# Altium footprint library digital_logic_design_reference_pcblib - 20240704更新.PcbLib: 11 footprints
Each footprint in its own frame and in the unit in brackets; x right, y up, seen from the top. Pads: shape width x height; smd on the part's side, far side on the other; paste and mask are expansions set on the pad; w line width, h text height; cw(c..) or ccw(c..) is an arc to the next point about the centre after c.
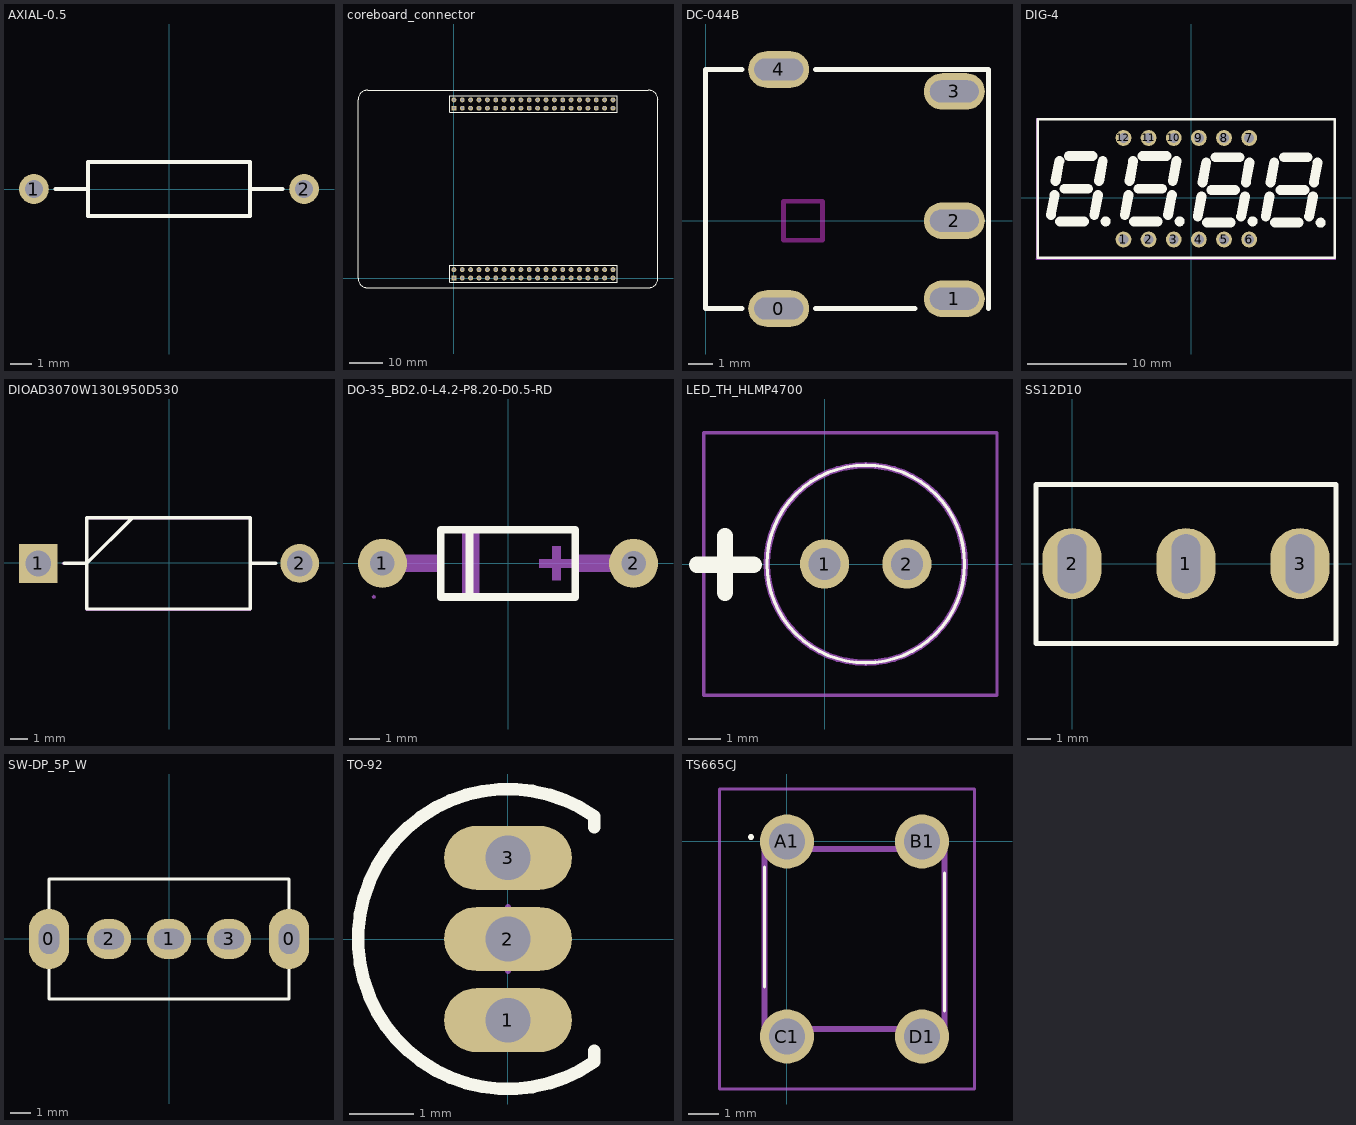
[diagram p0: the footprints below, top view; thin cyan lines are the x and y axes]

## AXIAL-0.5 [mm] "Axial Device, Thru-Hole; 2 Leads; 0.5 in Pin Spacing"
height 2.54
pads (2):
  round 1.4 hole 0.85: 1(-6.35,0) 2(6.35,0)
Top Overlay:
  lines w0.2: -5.334,0 -3.81,0 ; 3.81,0 5.334,0 ; -3.81,-1.27 3.81,-1.27 3.81,1.27 -3.81,1.27 -3.81,-1.27

## coreboard_connector [mm] "Connector; Header40; 20x2 Position"
pads (80):
  rect 1.5x1.5 hole 0.9: 1(0,0) 41(0,51.5)
  round 1.5 hole 0.9: 2(0,2.54) 3(2.54,0) 4(2.54,2.54) 5(5.08,0) 6(5.08,2.54) 7(7.62,0) 8(7.62,2.54) 9(10.16,0) 10(10.16,2.54) 11(12.7,0) 12(12.7,2.54) 13(15.24,0) 14(15.24,2.54) 15(17.78,0) 16(17.78,2.54) 17(20.32,0) 18(20.32,2.54) 19(22.86,0) 20(22.86,2.54) 21(25.4,0) 22(25.4,2.54) 23(27.94,0) 24(27.94,2.54) 25(30.48,0) 26(30.48,2.54) 27(33.02,0) 28(33.02,2.54) 29(35.56,0) 30(35.56,2.54) 31(38.1,0) 32(38.1,2.54) 33(40.64,0) 34(40.64,2.54) 35(43.18,0) 36(43.18,2.54) 37(45.72,0) 38(45.72,2.54) 39(48.26,0) 40(48.26,2.54) 42(0,54.04) 43(2.54,51.5) 44(2.54,54.04) 45(5.08,51.5) 46(5.08,54.04) 47(7.62,51.5) 48(7.62,54.04) 49(10.16,51.5) 50(10.16,54.04) 51(12.7,51.5) 52(12.7,54.04) 53(15.24,51.5) 54(15.24,54.04) 55(17.78,51.5) 56(17.78,54.04) 57(20.32,51.5) 58(20.32,54.04) 59(22.86,51.5) 60(22.86,54.04) 61(25.4,51.5) 62(25.4,54.04) 63(27.94,51.5) 64(27.94,54.04) 65(30.48,51.5) 66(30.48,54.04) 67(33.02,51.5) 68(33.02,54.04) 69(35.56,51.5) 70(35.56,54.04) 71(38.1,51.5) 72(38.1,54.04) 73(40.64,51.5) 74(40.64,54.04) 75(43.18,51.5) 76(43.18,54.04) 77(45.72,51.5) 78(45.72,54.04) 79(48.26,51.5) 80(48.26,54.04)
Top Overlay:
  lines w0.2: -1.27,-1.27 -1.27,3.81 49.53,3.81 49.53,-1.27 -1.27,-1.27 ; -1.27,50.23 49.53,50.23 49.53,55.31 -1.27,55.31 -1.27,50.23
  lines w0.254: -29.087,0 ccw(c-26.087,0) -26.087,-3 58.913,-3 ccw(c58.913,0) 61.913,0 61.913,54 ccw(c58.913,54) 58.913,57 -26.087,57 ccw(c-26.087,54) -29.087,54 -29.087,0
3D body: height 7.58, standoff -2.94, extent 46.99,52.77 49.53,55.31
3D body: height 7.58, standoff -2.94, extent 44.45,52.77 46.99,55.31
3D body: height 7.58, standoff -2.94, extent 41.91,52.77 44.45,55.31
3D body: height 7.58, standoff -2.94, extent 39.37,52.77 41.91,55.31
3D body: height 7.58, standoff -2.94, extent 46.99,50.23 49.53,52.77
3D body: height 7.58, standoff -2.94, extent 44.45,50.23 46.99,52.77
3D body: height 7.58, standoff -2.94, extent 41.91,50.23 44.45,52.77
3D body: height 7.58, standoff -2.94, extent 39.37,50.23 41.91,52.77
3D body: height 7.58, standoff -2.94, extent 36.83,52.77 39.37,55.31
3D body: height 7.58, standoff -2.94, extent 34.29,52.77 36.83,55.31
3D body: height 7.58, standoff -2.94, extent 31.75,52.77 34.29,55.31
3D body: height 7.58, standoff -2.94, extent 29.21,52.77 31.75,55.31
3D body: height 7.58, standoff -2.94, extent 36.83,50.23 39.37,52.77
3D body: height 7.58, standoff -2.94, extent 34.29,50.23 36.83,52.77
3D body: height 7.58, standoff -2.94, extent 31.75,50.23 34.29,52.77
3D body: height 7.58, standoff -2.94, extent 29.21,50.23 31.75,52.77
3D body: height 7.58, standoff -2.94, extent 26.67,52.77 29.21,55.31
3D body: height 7.58, standoff -2.94, extent 24.13,52.77 26.67,55.31
3D body: height 7.58, standoff -2.94, extent 21.59,52.77 24.13,55.31
3D body: height 7.58, standoff -2.94, extent 19.05,52.77 21.59,55.31
3D body: height 7.58, standoff -2.94, extent 26.67,50.23 29.21,52.77
3D body: height 7.58, standoff -2.94, extent 24.13,50.23 26.67,52.77
3D body: height 7.58, standoff -2.94, extent 21.59,50.23 24.13,52.77
3D body: height 7.58, standoff -2.94, extent 19.05,50.23 21.59,52.77
3D body: height 7.58, standoff -2.94, extent 16.51,52.77 19.05,55.31
3D body: height 7.58, standoff -2.94, extent 13.97,52.77 16.51,55.31
3D body: height 7.58, standoff -2.94, extent 11.43,52.77 13.97,55.31
3D body: height 7.58, standoff -2.94, extent 8.89,52.77 11.43,55.31
3D body: height 7.58, standoff -2.94, extent 16.51,50.23 19.05,52.77
3D body: height 7.58, standoff -2.94, extent 13.97,50.23 16.51,52.77
3D body: height 7.58, standoff -2.94, extent 11.43,50.23 13.97,52.77
3D body: height 7.58, standoff -2.94, extent 8.89,50.23 11.43,52.77
3D body: height 7.58, standoff -2.94, extent -1.27,50.23 1.27,52.77
3D body: height 7.58, standoff -2.94, extent 1.27,50.23 3.81,52.77
3D body: height 7.58, standoff -2.94, extent 3.81,50.23 6.35,52.77
3D body: height 7.58, standoff -2.94, extent 6.35,50.23 8.89,52.77
3D body: height 7.58, standoff -2.94, extent -1.27,52.77 1.27,55.31
3D body: height 7.58, standoff -2.94, extent 1.27,52.77 3.81,55.31
3D body: height 7.58, standoff -2.94, extent 3.81,52.77 6.35,55.31
3D body: height 7.58, standoff -2.94, extent 6.35,52.77 8.89,55.31
3D body: height 7.58, standoff -2.94, extent 6.35,1.27 8.89,3.81
3D body: height 7.58, standoff -2.94, extent 3.81,1.27 6.35,3.81
3D body: height 7.58, standoff -2.94, extent 1.27,1.27 3.81,3.81
3D body: height 7.58, standoff -2.94, extent -1.27,1.27 1.27,3.81
3D body: height 7.58, standoff -2.94, extent 6.35,-1.27 8.89,1.27
3D body: height 7.58, standoff -2.94, extent 3.81,-1.27 6.35,1.27
3D body: height 7.58, standoff -2.94, extent 1.27,-1.27 3.81,1.27
3D body: height 7.58, standoff -2.94, extent -1.27,-1.27 1.27,1.27
3D body: height 7.58, standoff -2.94, extent 8.89,-1.27 11.43,1.27
3D body: height 7.58, standoff -2.94, extent 11.43,-1.27 13.97,1.27
3D body: height 7.58, standoff -2.94, extent 13.97,-1.27 16.51,1.27
3D body: height 7.58, standoff -2.94, extent 16.51,-1.27 19.05,1.27
3D body: height 7.58, standoff -2.94, extent 8.89,1.27 11.43,3.81
3D body: height 7.58, standoff -2.94, extent 11.43,1.27 13.97,3.81
3D body: height 7.58, standoff -2.94, extent 13.97,1.27 16.51,3.81
3D body: height 7.58, standoff -2.94, extent 16.51,1.27 19.05,3.81
3D body: height 7.58, standoff -2.94, extent 19.05,-1.27 21.59,1.27
3D body: height 7.58, standoff -2.94, extent 21.59,-1.27 24.13,1.27
3D body: height 7.58, standoff -2.94, extent 24.13,-1.27 26.67,1.27
3D body: height 7.58, standoff -2.94, extent 26.67,-1.27 29.21,1.27
3D body: height 7.58, standoff -2.94, extent 19.05,1.27 21.59,3.81
3D body: height 7.58, standoff -2.94, extent 21.59,1.27 24.13,3.81
3D body: height 7.58, standoff -2.94, extent 24.13,1.27 26.67,3.81
3D body: height 7.58, standoff -2.94, extent 26.67,1.27 29.21,3.81
3D body: height 7.58, standoff -2.94, extent 29.21,-1.27 31.75,1.27
3D body: height 7.58, standoff -2.94, extent 31.75,-1.27 34.29,1.27
3D body: height 7.58, standoff -2.94, extent 34.29,-1.27 36.83,1.27
3D body: height 7.58, standoff -2.94, extent 36.83,-1.27 39.37,1.27
3D body: height 7.58, standoff -2.94, extent 29.21,1.27 31.75,3.81
3D body: height 7.58, standoff -2.94, extent 31.75,1.27 34.29,3.81
3D body: height 7.58, standoff -2.94, extent 34.29,1.27 36.83,3.81
3D body: height 7.58, standoff -2.94, extent 36.83,1.27 39.37,3.81
3D body: height 7.58, standoff -2.94, extent 39.37,-1.27 41.91,1.27
3D body: height 7.58, standoff -2.94, extent 41.91,-1.27 44.45,1.27
3D body: height 7.58, standoff -2.94, extent 44.45,-1.27 46.99,1.27
3D body: height 7.58, standoff -2.94, extent 46.99,-1.27 49.53,1.27
3D body: height 7.58, standoff -2.94, extent 39.37,1.27 41.91,3.81
3D body: height 7.58, standoff -2.94, extent 41.91,1.27 44.45,3.81
3D body: height 7.58, standoff -2.94, extent 44.45,1.27 46.99,3.81
3D body: height 7.58, standoff -2.94, extent 46.99,1.27 49.53,3.81

## DC-044B [mm]
pads (5):
  oval 2.5x1.5 hole 0.9 slot 2 at 0 deg: 0(3,-3.6) 1(10.2,-3.2) 2(10.2,0) 3(10.2,5.3) 4(3,6.2)
Top Overlay:
  lines w0.2: 1.5,-3.6 0,-3.6 0,6.2 1.5,6.2 ; 4.5,-3.6 8.6,-3.6 ; 4.5,6.2 11.6,6.2 11.6,-3.6
Keep-Out Layer:
  lines w0.2: 3.2,-0.8 3.2,0.8 4.8,0.8 4.8,-0.8 3.2,-0.8
3D body: height 7.45, standoff -2.35, extent -0.16,-3.734 11.64,6.366

## DIG-4 [mm]
pads (12):
  round 1.6 hole 1 mask+0.051: 1(-6.858,-4.241) 2(-4.318,-4.241) 3(-1.778,-4.241) 4(0.762,-4.241) 5(3.302,-4.241) 6(5.842,-4.241) 7(5.842,6.019) 8(3.302,6.019) 9(0.762,6.019) 10(-1.778,6.019) 11(-4.318,6.019) 12(-6.858,6.019)
Top Overlay:
  circle w0.5: c13.065,-2.54 r0.254
  circle w0.5: c-8.652,-2.413 r0.254
  circle w0.5: c-1.175,-2.413 r0.254
  circle w0.5: c6.191,-2.413 r0.254
  lines w0.254: -15.508,-6.111 -15.508,7.889 14.492,7.889 14.492,-6.111 -15.508,-6.111
  lines w1: -14.192,-1.778 -13.811,0.254 ; -13.716,1.651 -13.335,3.683 ; -13.271,-2.413 -10.858,-2.413 ; -12.827,0.889 -10.414,0.889 ; -12.383,4.191 -9.97,4.191 ; -9.811,-1.778 -9.43,0.254 ; -9.335,1.651 -8.954,3.683 ; -6.731,-1.778 -6.35,0.254 ; -6.255,1.651 -5.874,3.683 ; -5.81,-2.413 -3.397,-2.413 ; -5.366,0.889 -2.953,0.889 ; -4.921,4.191 -2.508,4.191 ; -2.349,-1.778 -1.968,0.254 ; -1.873,1.651 -1.492,3.683 ; 0.651,-1.905 1.032,0.127 ; 1.127,1.524 1.508,3.556 ; 1.572,-2.54 3.985,-2.54 ; 2.016,0.762 4.429,0.762 ; 2.461,4.064 4.874,4.064 ; 5.032,-1.905 5.413,0.127 ; 5.509,1.524 5.89,3.556 ; 7.525,-1.905 7.906,0.127 ; 8.001,1.524 8.382,3.556 ; 8.445,-2.54 10.858,-2.54 ; 9.017,0.762 11.43,0.762 ; 9.335,4.064 11.747,4.064 ; 11.906,-1.905 12.287,0.127 ; 12.383,1.524 12.763,3.556
Mechanical 15:
  drawing of 17 lines, arcs and shapes, not listed

## DIOAD3070W130L950D530 [mm]
pads (2):
  rect 2.25x2.25 / inner round 2.25 / far side rect 2.25x2.25 hole 1.5: 1(-7.6,-0.025)
  round 2.25 hole 1.5: 2(7.6,-0.025)
Top Overlay:
  lines w0.2: -6.096,-0.025 -4.773,-0.025 -2.123,2.625 ; 4.727,-0.025 6.223,-0.025 ; -4.773,-2.675 -4.773,2.625 4.727,2.625 4.727,-2.675 -4.773,-2.675
Mechanical 15:
  lines w0.1: -6.198,-0.025 -4.773,-0.025 -2.123,2.625 ; 4.727,-0.025 5.969,-0.025 ; -4.773,-2.675 -4.773,2.625 4.727,2.625 4.727,-2.675 -4.773,-2.675
Mechanical 16:
  lines w0.05: -4.801,-2.743 -4.801,2.565 4.75,2.565 4.75,-2.743 -4.801,-2.743

## DO-35_BD2.0-L4.2-P8.20-D0.5-RD [mm]
pads (2):
  round 1.6 hole 0.8 mask+0.051: 1(-4.1,0) 2(4.1,0)
Top Overlay:
  lines w0.254: -1.261,-1.1 -1.261,1.1 ; -2.2,-1.1 2.2,-1.1 2.2,1.1 -2.2,1.1 -2.2,-1.1
Mechanical 6:
  region: -0.94,1.12 -1.5,1.12 -1.5,-1.12 -0.94,-1.12
  region: 1.3,0.14 2.14,0.14 2.14,-0.14 1.3,-0.14 1.02,-0.14 1.02,0.14
  region: 1.44,-0.28 1.44,0.56 1.72,0.56 1.72,-0.28 1.72,-0.56 1.44,-0.56
Mechanical 15:
  region: -4.315,-1.1 -4.334,-1.054 -4.38,-1.035 -4.426,-1.054 -4.445,-1.1 -4.426,-1.146 -4.38,-1.165 -4.334,-1.146
  region: 4.386,0 4.364,0.109 4.302,0.202 4.209,0.264 4.1,0.285 3.991,0.264 3.898,0.202 3.836,0.109 3.815,0 3.836,-0.109 3.898,-0.202 3.991,-0.264 4.1,-0.285 4.209,-0.264 4.302,-0.202 4.364,-0.109
  region: -3.815,0 -3.836,0.109 -3.898,0.202 -3.991,0.264 -4.1,0.285 -4.209,0.264 -4.302,0.202 -4.364,0.109 -4.386,0 -4.364,-0.109 -4.302,-0.202 -4.209,-0.264 -4.1,-0.285 -3.991,-0.264 -3.898,-0.202 -3.836,-0.109
  region: 4.38,0.28 4.38,-0.28 2.14,-0.28 2.14,0.28
  region: -4.38,-0.28 -4.38,0.28 -2.14,0.28 -2.14,-0.28
  lines w0.051: -2.2,-1.1 2.2,-1.1 2.2,1.1 -2.2,1.1 -2.2,-1.1

## LED_TH_HLMP4700 [mm]
pads (2):
  round 1.521 hole 0.978: 1(0,0) 2(2.54,0)
Top Overlay:
  lines w0.1: -1.78,0 cw(c1.27,0) 4.32,0 cw(c1.27,0) -1.78,0
  lines w0.5: -3.937,-0.025 -2.184,-0.025 ; -3.073,-0.889 -3.073,0.864
Mechanical 15:
  lines w0.2: -1.78,0 cw(c1.27,0) 4.32,0 cw(c1.27,0) -1.78,0
Mechanical 16:
  lines w0.1: -3.73,-4.05 -3.73,4.05 5.32,4.05 5.32,-4.05 -3.73,-4.05
3D body: height 9.6, standoff -5.1, extent -1.655,-2.9 4.145,2.9

## SS12D10 [mm]
pads (3):
  oval 2.5x3 hole 1.2 slot 2.5 at 90 deg: 1(4.826,0) 2(0,0) 3(9.652,0)
Top Overlay:
  lines w0.2: -1.524,-3.381 11.176,-3.381 11.176,3.35 -1.524,3.35 -1.524,-3.35
3D body: height 9.4, standoff -6.9, extent -1.672,-3.425 11.328,3.375

## SW-DP_5P_W [mm]
pads (5):
  oval 2x3 hole 1 slot 1.5 at 90 deg: 0(-6,0) 0(6,0)
  oval 2.2x2 hole 1 slot 1.5 at 0 deg: 1(0,0) 2(-3,0) 3(3,0)
Top Overlay:
  lines w0.152: -6,-3 6,-3 6,3 -6,3 -6,-3

## TO-92 [mm]
pads (3):
  oval 2x1 hole 0.7: 1(0,-1.27) 2(0,0) 3(0,1.27)
Top Overlay:
  lines w0.2: 1.35,-1.75 1.35,-1.92 cw(c0,0) 1.35,1.92 1.35,1.75
Mechanical 15:
  lines w0.1: -0.5,0 0.5,0 ; 0,-0.5 0,0.5

## TS665CJ [mm]
pads (4):
  round 1.8 hole 1.2: A1(0,0) B1(4.5,0) C1(0,-6.5) D1(4.5,-6.5)
Top Overlay:
  lines w0.1: -0.75,-4.85 -0.75,-0.85 ; 5.25,-5.65 5.25,-1.05 ; -1.25,0.15 ccw(c-1.2,0.15) -1.15,0.15 ccw(c-1.2,0.15) -1.25,0.15
Mechanical 15:
  lines w0.2: -0.75,-6.25 -0.75,-0.25 5.25,-0.25 5.25,-6.25 -0.75,-6.25
Mechanical 16:
  lines w0.1: -2.25,-8.25 -2.25,1.75 6.25,1.75 6.25,-8.25 -2.25,-8.25
3D body: height 5.25, standoff -5, extent -0.75,-6.899 5.25,0.399